# Altium footprint library remote.PcbLib: 24 footprints (part 1 of 2)
Each footprint in its own frame and in the unit in brackets; x right, y up, seen from the top. Pads: shape width x height; smd on the part's side, far side on the other; paste and mask are expansions set on the pad; w line width, h text height; cw(c..) or ccw(c..) is an arc to the next point about the centre after c.
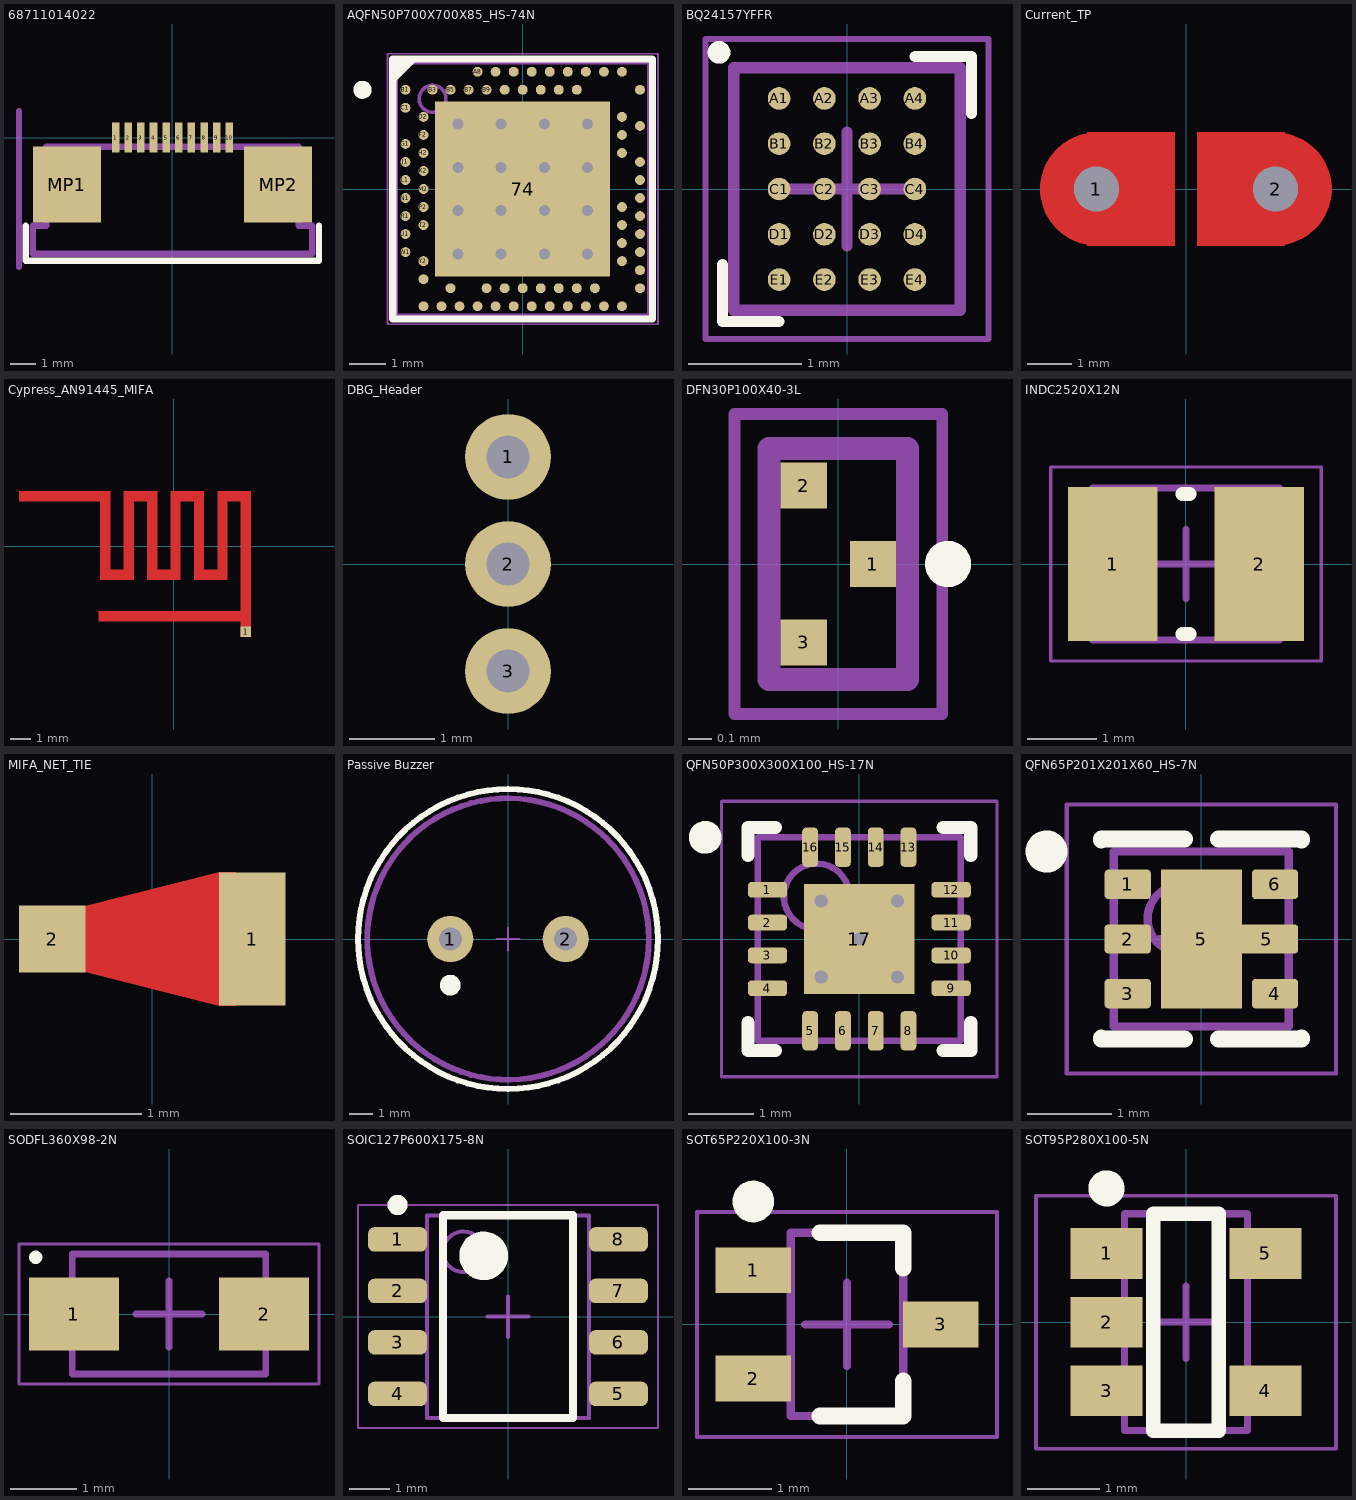
[diagram p0: the footprints below, top view; thin cyan lines are the x and y axes]

## 68711014022 [mm] "10 Position FPC Connector Contacts, Top 0.020\" (0.50mm) Surface Mount, Right Angle"
pads (12):
  rect 0.3x1.2 smd: 1(-2.25,0) 2(-1.75,0) 3(-1.25,0) 4(-0.75,0) 5(-0.25,0) 6(0.25,0) 7(0.75,0) 8(1.25,0) 9(1.75,0) 10(2.25,0)
  rect 2.7x3 smd: MP1(-4.18,-1.86) MP2(4.18,-1.86)
Top Overlay:
  lines w0.254: -5.8,-3.5 -5.8,-4.87 5.8,-4.87 5.8,-3.5
Mechanical 13:
  lines w0.254: -5.53,-4.6 -5.53,-3.5 -5,-3.5 -5,-0.36 5,-0.36 5,-3.5 5.53,-3.5 5.53,-4.6 -5.53,-4.6
Mechanical 15:
  lines w0.254: -6.075,-5.125 -6.075,1.05
3D body "68711014022_Download_STP_68711014022_rev1.stp": height 2.06, standoff -0.04, extent -5.7,-4.8 5.7,0.3

## AQFN50P700X700X85_HS-74N [mm]
pads (74):
  rect 4.85x4.85 smd mask+0.05: 74(0,0)
  round 0.275 smd paste+0.012 mask+0.05: A8(-1.25,3.25) A10(-0.75,3.25) A12(-0.25,3.25) A14(0.25,3.25) A16(0.75,3.25) A18(1.25,3.25) A20(1.75,3.25) A22(2.25,3.25) A23(2.75,3.25) AA24(3.25,-2.25) AB2(-2.75,-2.5) AC5(-2,-2.75) AC9(-1,-2.75) AC11(-0.5,-2.75) AC13(0,-2.75) AC15(0.5,-2.75) AC17(1,-2.75) AC19(1.5,-2.75) AC21(2,-2.75) AC24(3.25,-2.75) AD2(-2.75,-3.25) AD4(-2.25,-3.25) AD6(-1.75,-3.25) AD8(-1.25,-3.25) AD10(-0.75,-3.25) AD12(-0.25,-3.25) AD14(0.25,-3.25) AD16(0.75,-3.25) AD18(1.25,-3.25) AD20(1.75,-3.25) AD22(2.25,-3.25) AD23(2.75,-3.25) B1(-3.25,2.75) B3(-2.5,2.75) B5(-2,2.75) B7(-1.5,2.75) B9(-1,2.75) B11(-0.5,2.75) B13(0,2.75) B15(0.5,2.75) B17(1,2.75) B19(1.5,2.75) B24(3.25,2.75) C1(-3.25,2.25) D2(-2.75,2) D23(2.75,2) E24(3.25,1.75) F2(-2.75,1.5) F23(2.75,1.5) G1(-3.25,1.25) H2(-2.75,1) H23(2.75,1) J1(-3.25,0.75) J24(3.25,0.75) K2(-2.75,0.5) L1(-3.25,0.25) L24(3.25,0.25) M2(-2.75,0) N1(-3.25,-0.25) N24(3.25,-0.25) P2(-2.75,-0.5) P23(2.75,-0.5) R1(-3.25,-0.75) R24(3.25,-0.75) T2(-2.75,-1) T23(2.75,-1) U1(-3.25,-1.25) U24(3.25,-1.25) V23(2.75,-1.5) W1(-3.25,-1.75) W24(3.25,-1.75) Y2(-2.75,-2) Y23(2.75,-2)
via 1.8,-1.8 diameter 0.61 hole 0.305
via 0.6,-1.8 diameter 0.61 hole 0.305
via -0.6,-1.8 diameter 0.61 hole 0.305
via -1.8,-1.8 diameter 0.61 hole 0.305
via 1.8,-0.6 diameter 0.61 hole 0.305
via 0.6,-0.6 diameter 0.61 hole 0.305
via -0.6,-0.6 diameter 0.61 hole 0.305
via -1.8,-0.6 diameter 0.61 hole 0.305
via 1.8,0.6 diameter 0.61 hole 0.305
via 0.6,0.6 diameter 0.61 hole 0.305
via -0.6,0.6 diameter 0.61 hole 0.305
via -1.8,0.6 diameter 0.61 hole 0.305
via 1.8,1.8 diameter 0.61 hole 0.305
via 0.6,1.8 diameter 0.61 hole 0.305
via -0.6,1.8 diameter 0.61 hole 0.305
via -1.8,1.8 diameter 0.61 hole 0.305
Top Overlay:
  circle w0.25: c-4.44,2.75 r0.125
  region: -3,3.5 -3.5,3 -3.5,3.5
  lines w0.2: -3.6,-3.6 3.6,-3.6 3.6,3.6 -3.6,3.6 -3.6,-3.6
Mechanical 7:
  circle w0.1: c-2.5,2.5 r0.373
  lines w0.1: -3.5,-3.5 -3.5,3.5 3.5,3.5 3.5,-3.5 -3.5,-3.5
  text ".Designator" at -0.178,-0.152 h0.3
Mechanical 15:
  lines w0.05: -3.75,-3.75 3.75,-3.75 3.75,3.75 -3.75,3.75 -3.75,-3.75
  lines w0.1: -0.5,0 0.5,0 ; 0,-0.5 0,0.5
3D body "LGA88C25P25X25_700X700X85.step": height 0.85, standoff 0, extent -3.55,-3.55 3.55,3.55

## BQ24157YFFR [mm]
pads (20):
  round 0.2 smd: A1(-0.6,0.8) A2(-0.2,0.8) A3(0.2,0.8) A4(0.6,0.8) B1(-0.6,0.4) B2(-0.2,0.4) B3(0.2,0.4) B4(0.6,0.4) C1(-0.6,0) C2(-0.2,0) C3(0.2,0) C4(0.6,0) D1(-0.6,-0.4) D2(-0.2,-0.4) D3(0.2,-0.4) D4(0.6,-0.4) E1(-0.6,-0.8) E2(-0.2,-0.8) E3(0.2,-0.8) E4(0.6,-0.8)
Top Overlay:
  circle w0.1: c-1.13,1.206 r0.05
  lines w0.1: -1.1,-0.67 -1.1,-1.17 -0.6,-1.17 ; 0.6,1.17 1.1,1.17 1.1,0.67
Mechanical 13:
  lines w0.1: -1,-1.07 -1,1.07 1,1.07 1,-1.07 -1,-1.07
Mechanical 15:
  lines w0.05: -1.25,-1.325 -1.25,1.325 1.25,1.325 1.25,-1.325 -1.25,-1.325
  lines w0.1: -0.5,0 0.5,0 ; 0,-0.5 0,0.5
3D body "YFF20.step": height 1.27, standoff 0, extent -1.003,-1.016 1.003,1.016

## Current_TP [mm]
pads (2):
  round 1 hole 1 mask+0: 1(-2,0)
  round 1 hole 1 paste+0 mask+0: 2(2,0)
Top Layer:
  circle w1.5: c-2,0 r0.508
  circle w1.5: c2,0 r0.508
  rectangle: -2.21,-1.27 -0.25,1.27
  rectangle: 0.25,-1.27 2.21,1.27
Top Solder:
  lines w0.2: -2,-1.35 cw(c-2,0) -2,1.35 2,1.35 cw(c2,0) 2,-1.35 -2,-1.35

## Cypress_AN91445_MIFA [mil] "Cypress app note 91445 MIFA reference implementation for BLE"
pads (1):
  rect 20x20 smd paste+0 mask+4: 1(138,-163.5)
Top Layer:
  rectangle: -144.85,-144.22 148.15,-124.22
  rectangle: -296.85,85.77 -121.85,105.77
  region: -121.85,-64.23 -121.85,105.77 -141.85,105.77 -141.85,-64.23
  rectangle: -141.85,-64.23 -76.85,-44.23
  region: -76.85,-64.23 -76.85,105.77 -96.85,105.77 -96.85,-64.23
  rectangle: -96.85,85.77 -31.85,105.77
  region: -31.85,-64.23 -31.85,105.77 -51.85,105.77 -51.85,-64.23
  rectangle: -51.85,-64.23 13.15,-44.23
  region: 13.15,-64.23 13.15,105.77 -6.85,105.77 -6.85,-64.23
  rectangle: -6.85,85.77 58.15,105.77
  region: 58.15,-64.23 58.15,105.77 38.15,105.77 38.15,-64.23
  rectangle: 38.15,-64.23 103.15,-44.23
  region: 103.15,-64.23 103.15,105.77 83.15,105.77 83.15,-64.23
  rectangle: 83.15,85.77 148.15,105.77
  region: 148.15,-174.23 148.15,105.77 128.15,105.77 128.15,-174.23
  region: 116.33,20.23

## DBG_Header [mm]
pads (3):
  round 1 hole 0.5: 1(0,1.25) 2(0,0) 3(0,-1.25)

## DFN30P100X40-3L [mm] "DFN, 3-Leads, Body 0.60x1.00mm, Pitch 0.30mm, IPC High Density"
height 0.4
pads (3):
  rect 0.2x0.2 smd: 1(0.15,0) 2(-0.15,0.34) 3(-0.15,-0.34)
Top Overlay:
  circle w0.1: c0.475,0 r0.05
Mechanical 13:
  lines w0.1: -0.3,-0.5 0.3,-0.5 0.3,0.5 -0.3,0.5 -0.3,-0.5
Mechanical 15:
  lines w0.05: -0.45,-0.65 0.45,-0.65 0.45,0.65 -0.45,0.65 -0.45,-0.65
3D body "DMX3.step": height 0.47, standoff 0.01, extent -0.35,-0.55 0.35,0.55

## INDC2520X12N [mm] "Chip Inductor, 2-Leads, Body 2.50x2.00mm, IPC Medium Density"
height 1.2
pads (2):
  rect 1.29x2.22 smd: 1(-1.055,0) 2(1.055,0)
Top Overlay:
  lines w0.2: -0.05,-1.01 0.05,-1.01 ; -0.05,1.01 0.05,1.01
Mechanical 13:
  lines w0.1: -1.35,-1.1 -1.35,1.1 1.35,1.1 1.35,-1.1 -1.35,-1.1
Mechanical 15:
  lines w0.05: -1.95,-1.4 -1.95,1.4 1.95,1.4 1.95,-1.4 -1.95,-1.4
  lines w0.1: -0.5,0 0.5,0 ; 0,-0.5 0,0.5
3D body: height 1.2, standoff 0, extent -0.75,-1.1 0.75,1.1
3D body: height 1.2, standoff 0, extent -1.35,-1.1 -0.75,1.1
3D body: height 1.2, standoff 0, extent 0.75,-1.1 1.35,1.1

## MIFA_NET_TIE [mil]
pads (2):
  rect 20x40 smd paste+0 mask+0: 1(30,0)
  rect 20x20 smd mask+4: 2(-30,0)
Top Layer:
  region: -20.5,9.88 -20.5,-9.88 20,-20 25,-20 25,20 20,20

## Passive Buzzer [mm]
pads (2):
  round 2 hole 1: 1(-2.5,0) 2(2.5,0)
Top Overlay:
  circle w0.254: c0,0 r6.5
  circle w0.5: c-2.5,-2 r0.2
Mechanical 15:
  circle w0.254: c0,0 r6.1
  lines w0.1: -0.5,0 0.5,0 ; 0,-0.5 0,0.5

## QFN50P300X300X100_HS-17N [mm] "QFN, 16-Leads, Body 3.00x3.00mm, Pitch 0.50mm, Thermal Pad 1.68x1.68mm, IPC Medium Density"
height 1
pads (17):
  rrect50% 0.6x0.24 smd: 1(-1.4,0.75) 2(-1.4,0.25) 3(-1.4,-0.25) 4(-1.4,-0.75) 9(1.4,-0.75) 10(1.4,-0.25) 11(1.4,0.25) 12(1.4,0.75)
  rrect50% 0.24x0.6 smd: 5(-0.75,-1.4) 6(-0.25,-1.4) 7(0.25,-1.4) 8(0.75,-1.4) 13(0.75,1.4) 14(0.25,1.4) 15(-0.25,1.4) 16(-0.75,1.4)
  rect 1.68x1.68 smd: 17(0,0)
via -0.58,-0.58 diameter 0.45 hole 0.2
via 0.58,-0.58 diameter 0.45 hole 0.2
via 0.58,0.58 diameter 0.45 hole 0.2
via 0,0 diameter 0.45 hole 0.2
via -0.58,0.58 diameter 0.45 hole 0.2
Top Overlay:
  circle w0.25: c-2.35,1.55 r0.125
  lines w0.2: -1.7,-1.275 -1.7,-1.7 -1.275,-1.7 ; -1.7,1.275 -1.7,1.7 -1.275,1.7 ; 1.275,-1.7 1.7,-1.7 1.7,-1.275 ; 1.275,1.7 1.7,1.7 1.7,1.275
Mechanical 13:
  circle w0.1: c-0.65,0.65 r0.5
  lines w0.1: -1.55,-1.55 1.55,-1.55 1.55,1.55 -1.55,1.55 -1.55,-1.55
Mechanical 15:
  lines w0.05: -2.1,-2.1 2.1,-2.1 2.1,2.1 -2.1,2.1 -2.1,-2.1
  lines w0.1: -0.5,0 0.5,0 ; 0,-0.5 0,0.5
3D body "RGT16.step": height 0.92, standoff 0, extent -1.575,-1.575 1.575,1.575

## QFN65P201X201X60_HS-7N [mm] "QFN, 6-Leads, Body 2.01x2.01mm, Pitch 0.65mm, Thermal Pad 0.86x1.55mm, IPC Medium Density"
height 0.6
pads (7):
  rrect25% 0.55x0.35 smd: 1(-0.875,0.65) 2(-0.875,0) 3(-0.875,-0.65) 4(0.875,-0.65) 6(0.875,0.65)
  rect 0.96x1.65 smd: 5(0,0)
  rrect25% 0.75x0.35 smd: 5(0.775,0)
Top Overlay:
  circle w0.25: c-1.84,1.04 r0.125
  lines w0.2: -1.19,-1.175 -1.19,-1.19 -0.2,-1.19 ; -1.19,1.175 -1.19,1.19 -0.2,1.19 ; 0.2,-1.19 1.19,-1.19 1.19,-1.175 ; 0.2,1.19 1.19,1.19 1.19,1.175
Mechanical 13:
  circle w0.1: c-0.24,0.24 r0.4
  lines w0.1: -1.04,-1.04 1.04,-1.04 1.04,1.04 -1.04,1.04 -1.04,-1.04
Mechanical 15:
  lines w0.05: -1.6,-1.6 1.6,-1.6 1.6,1.6 -1.6,1.6 -1.6,-1.6
  lines w0.1: -0.5,0 0.5,0 ; 0,-0.5 0,0.5
3D body: height 0.6, standoff 0, extent -1.04,-1.04 1.04,1.04

## SODFL360X98-2N [mm] "SODFL, 2-Leads, Body 1.65x3.60mm, IPC Medium Density"
height 0.98
pads (2):
  rect 1.35x1.1 smd: 1(-1.425,0) 2(1.425,0)
Top Overlay:
  circle w0.1: c-2,0.85 r0.05
Mechanical 13:
  lines w0.1: -1.45,-0.9 1.45,-0.9 1.45,0.9 -1.45,0.9 -1.45,-0.9
Mechanical 15:
  lines w0.05: -2.25,-1.05 2.25,-1.05 2.25,1.05 -2.25,1.05 -2.25,-1.05
  lines w0.1: -0.5,0 0.5,0 ; 0,-0.5 0,0.5
3D body: height 0.98, standoff 0, extent -1.45,-0.9 1.45,0.9

## SOIC127P600X175-8N [mm] "SOIC, 8-Leads, Body 4.90x3.90mm, Pitch 1.27mm, IPC Medium Density"
height 1.75
pads (8):
  rrect50% 1.45x0.6 smd: 1(-2.725,1.905) 2(-2.725,0.635) 3(-2.725,-0.635) 4(-2.725,-1.905) 5(2.725,-1.905) 6(2.725,-0.635) 7(2.725,0.635) 8(2.725,1.905)
Top Overlay:
  circle w0.25: c-2.725,2.755 r0.125
  circle w0.6: c-0.6,1.5 r0.3
  lines w0.2: -1.6,-2.5 -1.6,2.5 1.6,2.5 1.6,-2.5 -1.6,-2.5
Mechanical 13:
  circle w0.1: c-1.1,1.6 r0.5
  lines w0.1: -2,-2.5 -2,2.5 2,2.5 2,-2.5 -2,-2.5
Mechanical 15:
  lines w0.05: -3.7,-2.75 -3.7,2.75 3.7,2.75 3.7,-2.75 -3.7,-2.75
  lines w0.1: -0.5,0 0.5,0 ; 0,-0.5 0,0.5
3D body: height 1.75, standoff 0.25, extent -2,-2.5 2,2.5

## SOT65P220X100-3N [mm] "SOT23, 3-Leads, Body 2.00x2.20mm, Pitch 0.65mm, IPC Medium Density"
height 1
pads (3):
  rect 0.9x0.55 smd: 1(-1.125,0.65) 2(-1.125,-0.65) 3(1.125,0)
Top Overlay:
  circle w0.25: c-1.125,1.475 r0.125
  lines w0.2: -0.325,-1.1 0.675,-1.1 0.675,-0.675 ; -0.325,1.1 0.675,1.1 0.675,0.675
Mechanical 13:
  lines w0.1: -0.675,-1.1 -0.675,1.1 0.675,1.1 0.675,-1.1 -0.675,-1.1
Mechanical 15:
  lines w0.05: -1.8,-1.35 -1.8,1.35 1.8,1.35 1.8,-1.35 -1.8,-1.35
  lines w0.1: -0.5,0 0.5,0 ; 0,-0.5 0,0.5
3D body: height 1, standoff 0.1, extent -0.675,-1.1 0.675,1.1

## SOT95P280X100-5N [mm] "SOT23, 5-Leads, Body 2.90x2.80mm, Pitch 0.95mm, IPC Medium Density"
height 1
pads (5):
  rect 1x0.7 smd: 1(-1.099,0.95) 2(-1.099,0) 3(-1.099,-0.95) 4(1.099,-0.95) 5(1.099,0.95)
Top Overlay:
  circle w0.25: c-1.099,1.85 r0.125
  lines w0.2: -0.45,-1.5 -0.45,1.5 0.45,1.5 0.45,-1.5 -0.45,-1.5
Mechanical 13:
  lines w0.1: -0.85,-1.5 0.85,-1.5 0.85,1.5 -0.85,1.5 -0.85,-1.5
Mechanical 15:
  lines w0.05: -2.075,-1.75 2.075,-1.75 2.075,1.75 -2.075,1.75 -2.075,-1.75
  lines w0.1: -0.5,0 0.5,0 ; 0,-0.5 0,0.5
3D body: height 1, standoff 0.01, extent -0.85,-1.5 0.85,1.5